# EAGLE library part MA-MAX30003 (library FaBo-Mems)
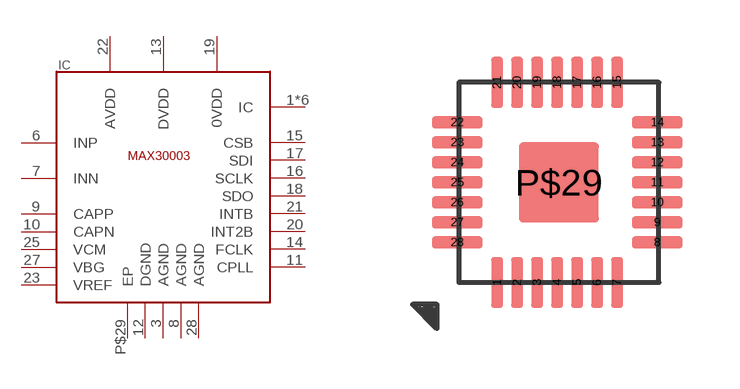
[diagram p37: symbol with the pads of MAXIM-MAX30003; footprint MAXIM-MAX30003]

Designator prefix IC

## MA-MAX30003  [MAXIM-MAX30003]
1  IC
2  IC
3  AGND
4  IC
5  IC
6  INP
7  INN
8  AGND
9  CAPP
10  CAPN
11  CPLL
12  DGND
13  DVDD
14  FCLK
15  CSB
16  SCLK
17  SDI
18  SDO
19  0VDD
20  INT2B
21  INTB
22  AVDD
23  VREF
24  IC
25  VCM
26  IC
27  VBG
28  AGND
P$29  EP

## Footprint MAXIM-MAX30003 (pad centres in mm)
smd 0.3 x 1.27: 1 -1.54,-2.5; 2 -1.04,-2.5; 3 -0.54,-2.5; 4 -0.04,-2.5; 5 0.46,-2.5; 6 0.96,-2.5; 7 1.46,-2.5; 15 1.46,2.5; 16 0.96,2.5; 17 0.46,2.5; 18 -0.04,2.5; 19 -0.54,2.5; 20 -1.04,2.5; 21 -1.54,2.5
smd 1.27 x 0.3: 8 2.46,-1.5; 9 2.46,-1; 10 2.46,-0.5; 11 2.46,0; 12 2.46,0.5; 13 2.46,1; 14 2.46,1.5; 22 -2.54,1.5; 23 -2.54,1; 24 -2.54,0.5; 25 -2.54,0; 26 -2.54,-0.5; 27 -2.54,-1; 28 -2.54,-1.5
smd 2 x 2: P$29 0,0